# Altium integrated library Relay.IntLib: 3 symbols
Pins are listed as number, name and electrical type; pins without a type are passive.

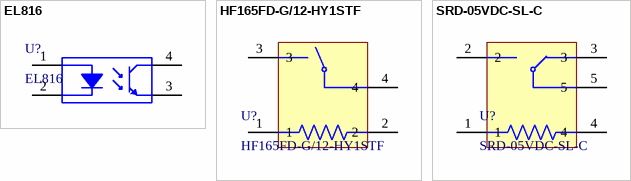
[diagram p0: symbols EL816 to SRD-05VDC-SL-C]

## EL816
designator U?
光耦隔离开关
footprint SO-4_6.5x4.58mm_P2.54mm (SOP, 4-Leads, Body 4.58x6.50mm, Pitch 2.54mm, IPC Medium Density)
pins: 1 Anode, 2 Cathode, 3 Emitter, 4 Collector

## HF165FD-G/12-HY1STF
designator U?
SPST 继电器  40A
footprint RELY_SPST_HONGFA_HF165FD-G/12-HY1STF
pins: 1, 2, 3, 4

## SRD-05VDC-SL-C
designator U?
SPDT 继电器
footprint Relay_SPDT_Songle_SRD-05VDC-SL-C
pins: 1, 2, 3, 4, 5